# EAGLE library part IR2153 (library Radicon)
IR2153(D)(S) SELF-OSCILLATING HALF-BRIDGE DRIVER
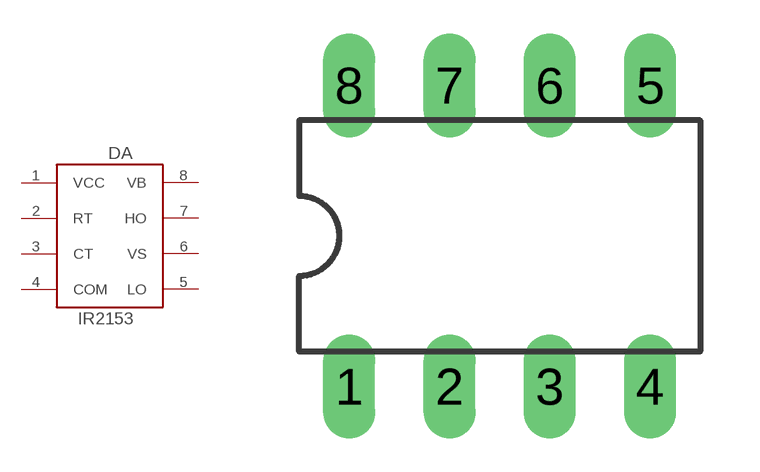
[diagram p49: symbol with the pads of DIL08; footprint DIL08]

Designator prefix DA

## IR2153  [DIL08]
1  VCC
2  RT
3  CT
4  COM
5  LO
6  VS
7  HO
8  VB

## Footprint DIL08 (pad centres in mm)
Dual In Line Package
drill 0.813 long: 1 -3.81,-3.81; 2 -1.27,-3.81; 3 1.27,-3.81; 4 3.81,-3.81; 5 3.81,3.81; 6 1.27,3.81; 7 -1.27,3.81; 8 -3.81,3.81